# EAGLE library part USB-MICRO (library bodger)
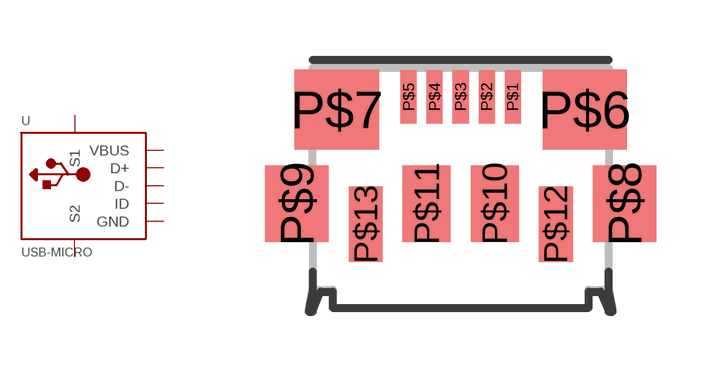
[diagram p46: symbol with the pads of ZX62R-B-5P; footprint ZX62R-B-5P]

Designator prefix -

## USB-MICROZX62R  [ZX62R-B-5P]
P$1  VBUS  pwr
P$2  D-
P$3  D+
P$4  ID
P$5  GND  pwr
P$8  S1
P$9  S2

## Footprint ZX62R-B-5P (pad centres in mm)
smd 0.4 x 1.35: P$1 1.3,2.675; P$2 0.65,2.675; P$3 0,2.675; P$4 -0.65,2.675; P$5 -1.3,2.675
smd 2.1 x 2: P$6 3.1,2.35; P$7 -3.1,2.35
smd 1.6 x 1.9: P$8 4.1,0; P$9 -4.1,0
smd 1.2 x 1.9: P$10 0.85,0; P$11 -0.85,0
smd 0.85 x 1.88: P$12 2.375,-0.51; P$13 -2.375,-0.51